# EAGLE library part DAC101S (library dac)
TI single DAC 10-bit serial (SPI compatible)
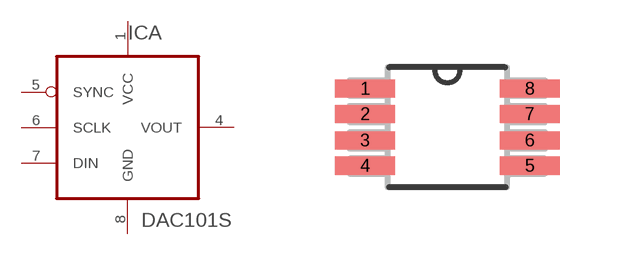
[diagram p2: symbol with the pads of MSOP-8; footprint MSOP-8]

Designator prefix IC; gates A=DAC101S P=PWRGND

## DAC101S-CIMM  [MSOP-8]
1  P:VCC  pwr
4  A:VOUT  out
5  A:SYNC  in
6  A:SCLK  in
7  A:DIN  in
8  P:GND  pwr

## Footprint MSOP-8 (pad centres in mm)
smd 1.499 x 0.457: 1 -2.057,0.965; 2 -2.057,0.33; 3 -2.057,-0.33; 4 -2.057,-0.965; 5 2.057,-0.965; 6 2.057,-0.33; 7 2.057,0.33; 8 2.057,0.965